# Altium schematic symbol library HPPC10040-R68M-Q8.SCHLIB: 1 symbol
Pins are listed as number, name and electrical type; pins without a type are passive.

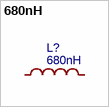
[diagram p0: symbol 680nH]

## 680nH
designator L?
Manufacturer: chilisin(奇力新); Manufacturer Part: HPPC10040-R68M-Q8; Contributor: LCSC; nameAlias: Value; Supplier: LCSC; Supplier Part: C910026; JLCPCB Part Class: Extended Part; spicePre: L; spiceSymbolName: HPPC10040-R68M-Q8
footprint IND-SMD_L11.3-W10.2_HPPC10024
pins: 1, 2